# Altium footprint library 24M_Osc.PcbLib: 1 footprints
Each footprint in its own frame and in the unit in brackets; x right, y up, seen from the top. Pads: shape width x height; smd on the part's side, far side on the other; paste and mask are expansions set on the pad; w line width, h text height; cw(c..) or ccw(c..) is an arc to the next point about the centre after c.
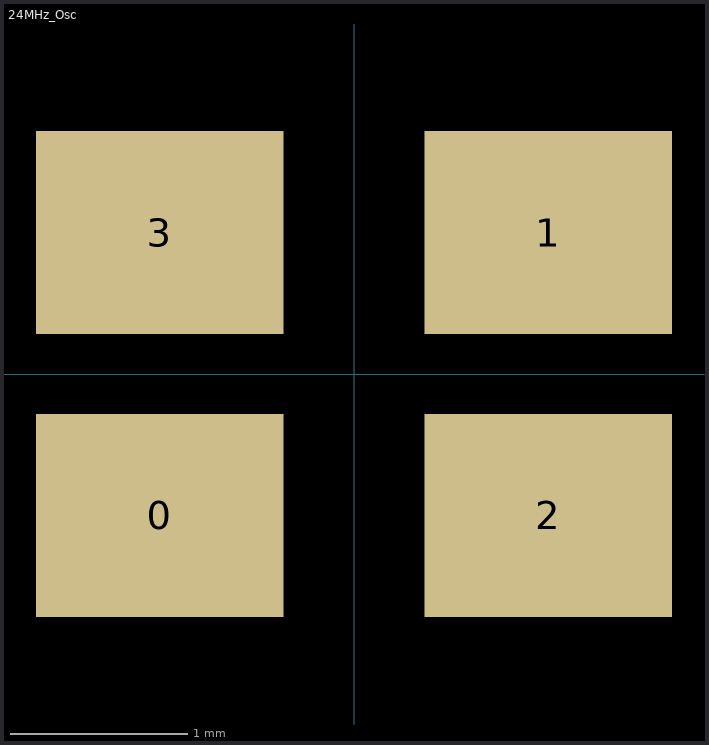
[diagram p0: the footprint, top view; thin cyan lines are the x and y axes]

## 24MHz_Osc [mm] "24MHz oscillator"
pads (4):
  rect 1.4x1.15 smd: 0(-1.1,-0.8) 1(1.1,0.8) 2(1.1,-0.8) 3(-1.1,0.8)
3D body: height 0.6, standoff 0, extent -1.6,-1.25 1.6,1.25
3D body: height 0.8, standoff 0.25, extent -1.3,-1 1.3,1